# Altium footprint library xl2011_pcb.PcbLib: 1 footprints
Each footprint in its own frame and in the unit in brackets; x right, y up, seen from the top. Pads: shape width x height; smd on the part's side, far side on the other; paste and mask are expansions set on the pad; w line width, h text height; cw(c..) or ccw(c..) is an arc to the next point about the centre after c.
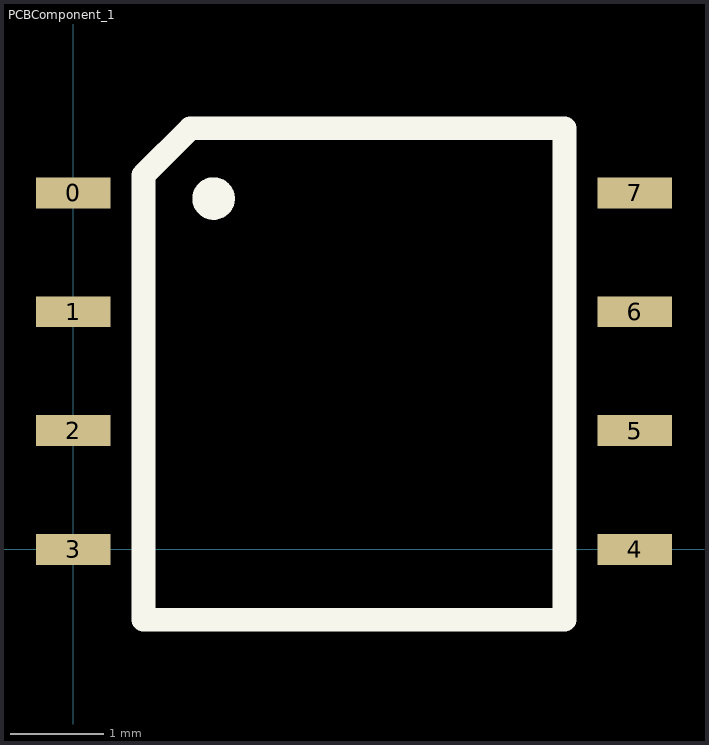
[diagram p0: the footprint, top view; thin cyan lines are the x and y axes]

## PCBComponent_1 [mm]
pads (8):
  rect 0.8x0.33 smd: 0(0,3.81) 1(0,2.54) 2(0,1.27) 3(0,0) 4(6,0) 5(6,1.27) 6(6,2.54) 7(6,3.81)
Top Overlay:
  circle w0.254: c1.5,3.75 r0.1
  lines w0.254: 0.75,-0.75 5.25,-0.75 5.25,4.5 1.25,4.5 0.75,4 0.75,-0.75